# Altium footprint library Molex 6.5MM  power connectors, 1510482204 etc..PcbLib: 1 footprints
Each footprint in its own frame and in the unit in brackets; x right, y up, seen from the top. Pads: shape width x height; smd on the part's side, far side on the other; paste and mask are expansions set on the pad; w line width, h text height; cw(c..) or ccw(c..) is an arc to the next point about the centre after c.
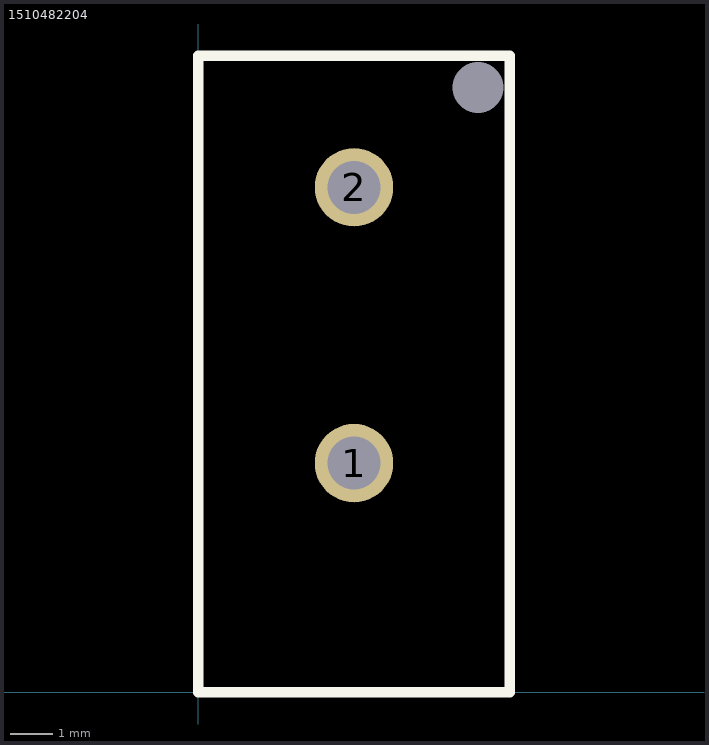
[diagram p0: the footprint, top view; thin cyan lines are the x and y axes]

## 1510482204 [mm] "Molex 6.5MM 2 pin connector, used for power connections. P/N 1510482204 and similar models."
pads (3):
  round 1.85 hole 1.25: 1(3.67,5.4) 2(3.67,11.9)
  round 0 hole 1.2 unplated: 9(6.59,14.25)
Top Layer:
  region: 4.826,3.175
Top Overlay:
  lines w0.254: 0,0 7.34,0 7.34,15 0,15 0,0